# Altium schematic symbol library SM712_SMT_SOT_23.SchLib: 1 symbol
Pins are listed as number, name and electrical type; pins without a type are passive.

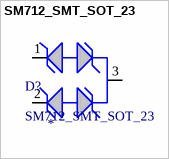
[diagram p0: symbol SM712_SMT_SOT_23]

## SM712_SMT_SOT_23
designator D?
SM712_SMT_SOT_23_Diode; LCSC: *
footprint SM712_SMT_SOT_23
pins: 1, 2, 3